# Altium footprint library LINUX SOC Module.PcbLib: 1 footprints
Each footprint in its own frame and in the unit in brackets; x right, y up, seen from the top. Pads: shape width x height; smd on the part's side, far side on the other; paste and mask are expansions set on the pad; w line width, h text height; cw(c..) or ccw(c..) is an arc to the next point about the centre after c.
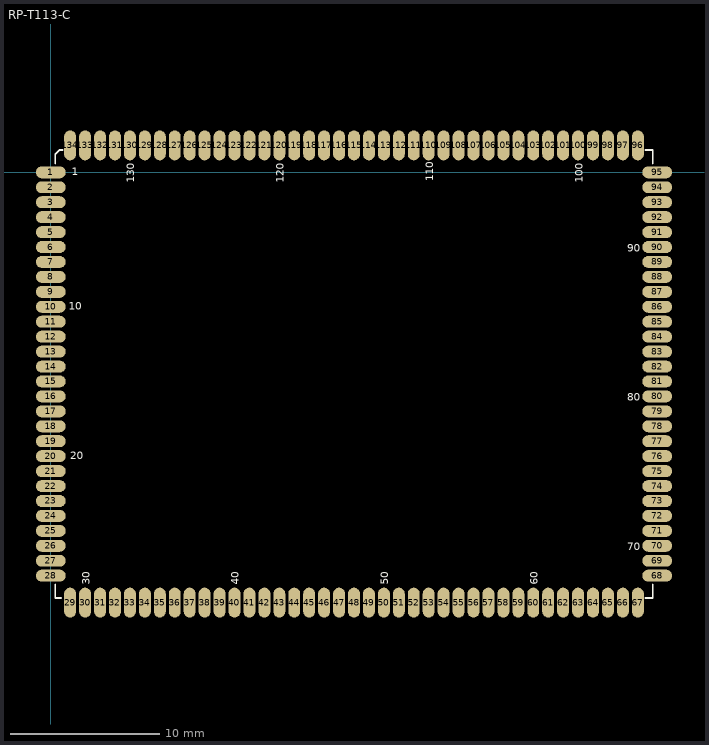
[diagram p0: the footprint, top view; thin cyan lines are the x and y axes]

## RP-T113-C [mm] "RP-T113-C SOC Module"
height 3
pads (134):
  oval 2x0.8 smd mask+0.051: 1(0,0) 6(0,-5) 11(0,-10) 16(0,-15) 21(0,-20) 26(0,-25) 70(40.6,-25) 75(40.6,-20) 80(40.6,-15) 85(40.6,-10) 90(40.6,-5) 95(40.6,0)
  oval 2x0.8 smd paste+0 mask+0.051: 2(0,-1) 3(0,-2) 4(0,-3) 5(0,-4) 7(0,-6) 8(0,-7) 9(0,-8) 10(0,-9) 12(0,-11) 13(0,-12) 14(0,-13) 15(0,-14) 17(0,-16) 18(0,-17) 19(0,-18) 20(0,-19) 22(0,-21) 23(0,-22) 24(0,-23) 25(0,-24) 27(0,-26) 28(0,-27) 68(40.6,-27) 69(40.6,-26) 71(40.6,-24) 72(40.6,-23) 73(40.6,-22) 74(40.6,-21) 76(40.6,-19) 77(40.6,-18) 78(40.6,-17) 79(40.6,-16) 81(40.6,-14) 82(40.6,-13) 83(40.6,-12) 84(40.6,-11) 86(40.6,-9) 87(40.6,-8) 88(40.6,-7) 89(40.6,-6) 91(40.6,-4) 92(40.6,-3) 93(40.6,-2) 94(40.6,-1)
  oval 0.8x2 smd paste+0 mask+0.051: 29(1.3,-28.8) 30(2.3,-28.8) 32(4.3,-28.8) 33(5.3,-28.8) 34(6.3,-28.8) 35(7.3,-28.8) 37(9.3,-28.8) 38(10.3,-28.8) 39(11.3,-28.8) 40(12.3,-28.8) 42(14.3,-28.8) 43(15.3,-28.8) 44(16.3,-28.8) 45(17.3,-28.8) 47(19.3,-28.8) 48(20.3,-28.8) 49(21.3,-28.8) 50(22.3,-28.8) 52(24.3,-28.8) 53(25.3,-28.8) 54(26.3,-28.8) 55(27.3,-28.8) 57(29.3,-28.8) 58(30.3,-28.8) 60(32.3,-28.8) 61(33.3,-28.8) 62(34.3,-28.8) 63(35.3,-28.8) 65(37.3,-28.8) 66(38.3,-28.8) 67(39.3,-28.8) 96(39.3,1.8) 97(38.3,1.8) 98(37.3,1.8) 100(35.3,1.8) 101(34.3,1.8) 102(33.3,1.8) 103(32.3,1.8) 105(30.3,1.8) 106(29.3,1.8) 108(27.3,1.8) 109(26.3,1.8) 110(25.3,1.8) 111(24.3,1.8) 113(22.3,1.8) 114(21.3,1.8) 115(20.3,1.8) 116(19.3,1.8) 118(17.3,1.8) 119(16.3,1.8) 120(15.3,1.8) 121(14.3,1.8) 123(12.3,1.8) 124(11.3,1.8) 125(10.3,1.8) 126(9.3,1.8) 128(7.3,1.8) 129(6.3,1.8) 130(5.3,1.8) 131(4.3,1.8) 133(2.3,1.8) 134(1.3,1.8)
  oval 0.8x2 smd mask+0.051: 31(3.3,-28.8) 36(8.3,-28.8) 41(13.3,-28.8) 46(18.3,-28.8) 51(23.3,-28.8) 56(28.3,-28.8) 59(31.3,-28.8) 64(36.3,-28.8) 99(36.3,1.8) 104(31.3,1.8) 107(28.3,1.8) 112(23.3,1.8) 117(18.3,1.8) 122(13.3,1.8) 127(8.3,1.8) 132(3.3,1.8)
Top Overlay:
  lines w0.127: 0.3,-27.6 0.3,-28.5 0.7,-28.5 ; 0.3,0.6 0.3,1.2 0.6,1.5 0.8,1.5 ; 39.8,-28.5 40.3,-28.5 40.3,-27.6 ; 39.8,1.5 40.3,1.5 40.3,0.6
  text "130" at 5.6,-0.7 h0.51
  text "120" at 15.6,-0.7 h0.51
  text "110" at 25.6,-0.6 h0.51
  text "100" at 35.6,-0.7 h0.51
  text "90" at 38.6,-5.3 h0.51
  text "80" at 38.6,-15.3 h0.51
  text "70" at 38.6,-25.3 h0.51
  text "60" at 32.6,-27.6 h0.51
  text "1" at 1.4,-0.2 h0.51
  text "50" at 22.6,-27.6 h0.51
  text "10" at 1.2,-9.2 h0.51
  text "20" at 1.3,-19.2 h0.51
  text "30" at 2.6,-27.6 h0.51
  text "40" at 12.6,-27.6 h0.51